# EAGLE library part 057-050- (library con-panduit)
CONNECTOR 50-pin series 057 contact pc board low profile headers
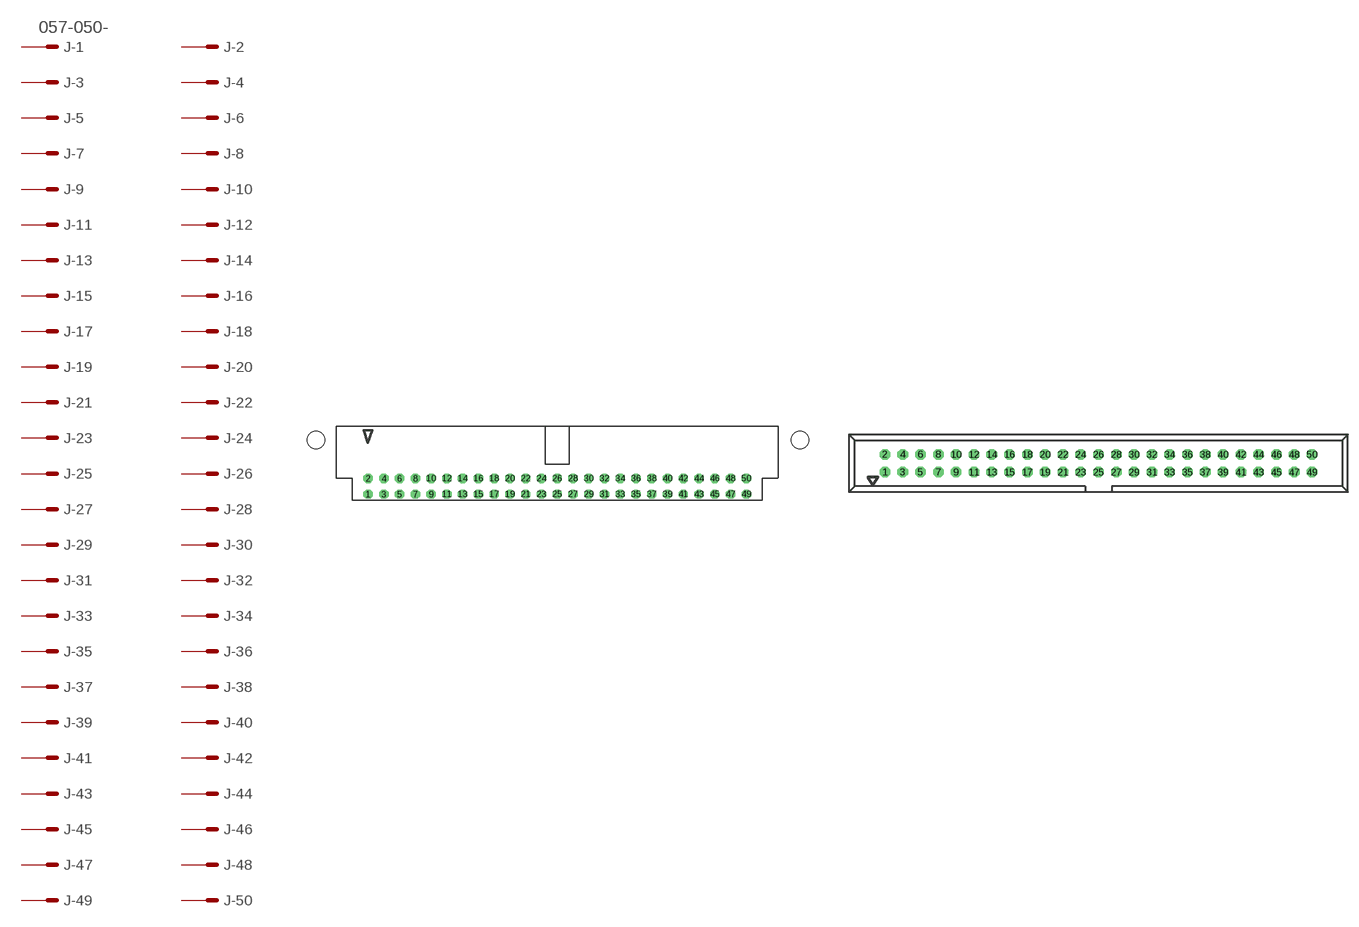
[diagram p2: symbol with the pads of 057-050-0; footprints 057-050-0, 057-050-1]

Designator prefix J; gates -1=MV -2=M -3=M -4=M -5=M -6=M -7=M -8=M -9=M -10=M -11=M -12=M -13=M -14=M -15=M -16=M -17=M -18=M -19=M -20=M -21=M -22=M -23=M -24=M -25=M -26=M -27=M -28=M -29=M -30=M -31=M -32=M -33=M -34=M -35=M -36=M -37=M -38=M -39=M -40=M -41=M -42=M -43=M -44=M -45=M -46=M -47=M -48=M -49=M -50=M

## 057-050-0  [057-050-0]
1  -1:S  pas
2  -2:S  pas
3  -3:S  pas
4  -4:S  pas
5  -5:S  pas
6  -6:S  pas
7  -7:S  pas
8  -8:S  pas
9  -9:S  pas
10  -10:S  pas
11  -11:S  pas
12  -12:S  pas
13  -13:S  pas
14  -14:S  pas
15  -15:S  pas
16  -16:S  pas
17  -17:S  pas
18  -18:S  pas
19  -19:S  pas
20  -20:S  pas
21  -21:S  pas
22  -22:S  pas
23  -23:S  pas
24  -24:S  pas
25  -25:S  pas
26  -26:S  pas
27  -27:S  pas
28  -28:S  pas
29  -29:S  pas
30  -30:S  pas
31  -31:S  pas
32  -32:S  pas
33  -33:S  pas
34  -34:S  pas
35  -35:S  pas
36  -36:S  pas
37  -37:S  pas
38  -38:S  pas
39  -39:S  pas
40  -40:S  pas
41  -41:S  pas
42  -42:S  pas
43  -43:S  pas
44  -44:S  pas
45  -45:S  pas
46  -46:S  pas
47  -47:S  pas
48  -48:S  pas
49  -49:S  pas
50  -50:S  pas

## 057-050-1  [057-050-1]
Pads as for 057-050-0

## Footprint 057-050-0 (pad centres in mm)
CONNECTOR series 057 contact pc board low profile headers angled
drill 1 octagon: 1 -30.48,-5.08; 2 -30.48,-2.54; 3 -27.94,-5.08; 4 -27.94,-2.54; 5 -25.4,-5.08; 6 -25.4,-2.54; 7 -22.86,-5.08; 8 -22.86,-2.54; 9 -20.32,-5.08; 10 -20.32,-2.54; 11 -17.78,-5.08; 12 -17.78,-2.54; 13 -15.24,-5.08; 14 -15.24,-2.54; 15 -12.7,-5.08; 16 -12.7,-2.54; 17 -10.16,-5.08; 18 -10.16,-2.54; 19 -7.62,-5.08; 20 -7.62,-2.54; 21 -5.08,-5.08; 22 -5.08,-2.54; 23 -2.54,-5.08; 24 -2.54,-2.54; 25 0,-5.08; 26 0,-2.54; 27 2.54,-5.08; 28 2.54,-2.54; 29 5.08,-5.08; 30 5.08,-2.54; 31 7.62,-5.08; 32 7.62,-2.54; 33 10.16,-5.08; 34 10.16,-2.54; 35 12.7,-5.08; 36 12.7,-2.54; 37 15.24,-5.08; 38 15.24,-2.54; 39 17.78,-5.08; 40 17.78,-2.54; 41 20.32,-5.08; 42 20.32,-2.54; 43 22.86,-5.08; 44 22.86,-2.54; 45 25.4,-5.08; 46 25.4,-2.54; 47 27.94,-5.08; 48 27.94,-2.54; 49 30.48,-5.08; 50 30.48,-2.54
hole 2.8 at -38.88,3.66
hole 2.8 at 39.13,3.66

## Footprint 057-050-1 (pad centres in mm)
CONNECTOR series 057 contact pc board low profile headers straight
drill 1 octagon: 1 -30.48,-1.27; 2 -30.48,1.27; 3 -27.94,-1.27; 4 -27.94,1.27; 5 -25.4,-1.27; 6 -25.4,1.27; 7 -22.86,-1.27; 8 -22.86,1.27; 9 -20.32,-1.27; 10 -20.32,1.27; 11 -17.78,-1.27; 12 -17.78,1.27; 13 -15.24,-1.27; 14 -15.24,1.27; 15 -12.7,-1.27; 16 -12.7,1.27; 17 -10.16,-1.27; 18 -10.16,1.27; 19 -7.62,-1.27; 20 -7.62,1.27; 21 -5.08,-1.27; 22 -5.08,1.27; 23 -2.54,-1.27; 24 -2.54,1.27; 25 0,-1.27; 26 0,1.27; 27 2.54,-1.27; 28 2.54,1.27; 29 5.08,-1.27; 30 5.08,1.27; 31 7.62,-1.27; 32 7.62,1.27; 33 10.16,-1.27; 34 10.16,1.27; 35 12.7,-1.27; 36 12.7,1.27; 37 15.24,-1.27; 38 15.24,1.27; 39 17.78,-1.27; 40 17.78,1.27; 41 20.32,-1.27; 42 20.32,1.27; 43 22.86,-1.27; 44 22.86,1.27; 45 25.4,-1.27; 46 25.4,1.27; 47 27.94,-1.27; 48 27.94,1.27; 49 30.48,-1.27; 50 30.48,1.27